# Altium footprint library PCB-PartsFootprint.PcbLib: 32 footprints (part 1 of 2)
Each footprint in its own frame and in the unit in brackets; x right, y up, seen from the top. Pads: shape width x height; smd on the part's side, far side on the other; paste and mask are expansions set on the pad; w line width, h text height; cw(c..) or ccw(c..) is an arc to the next point about the centre after c.
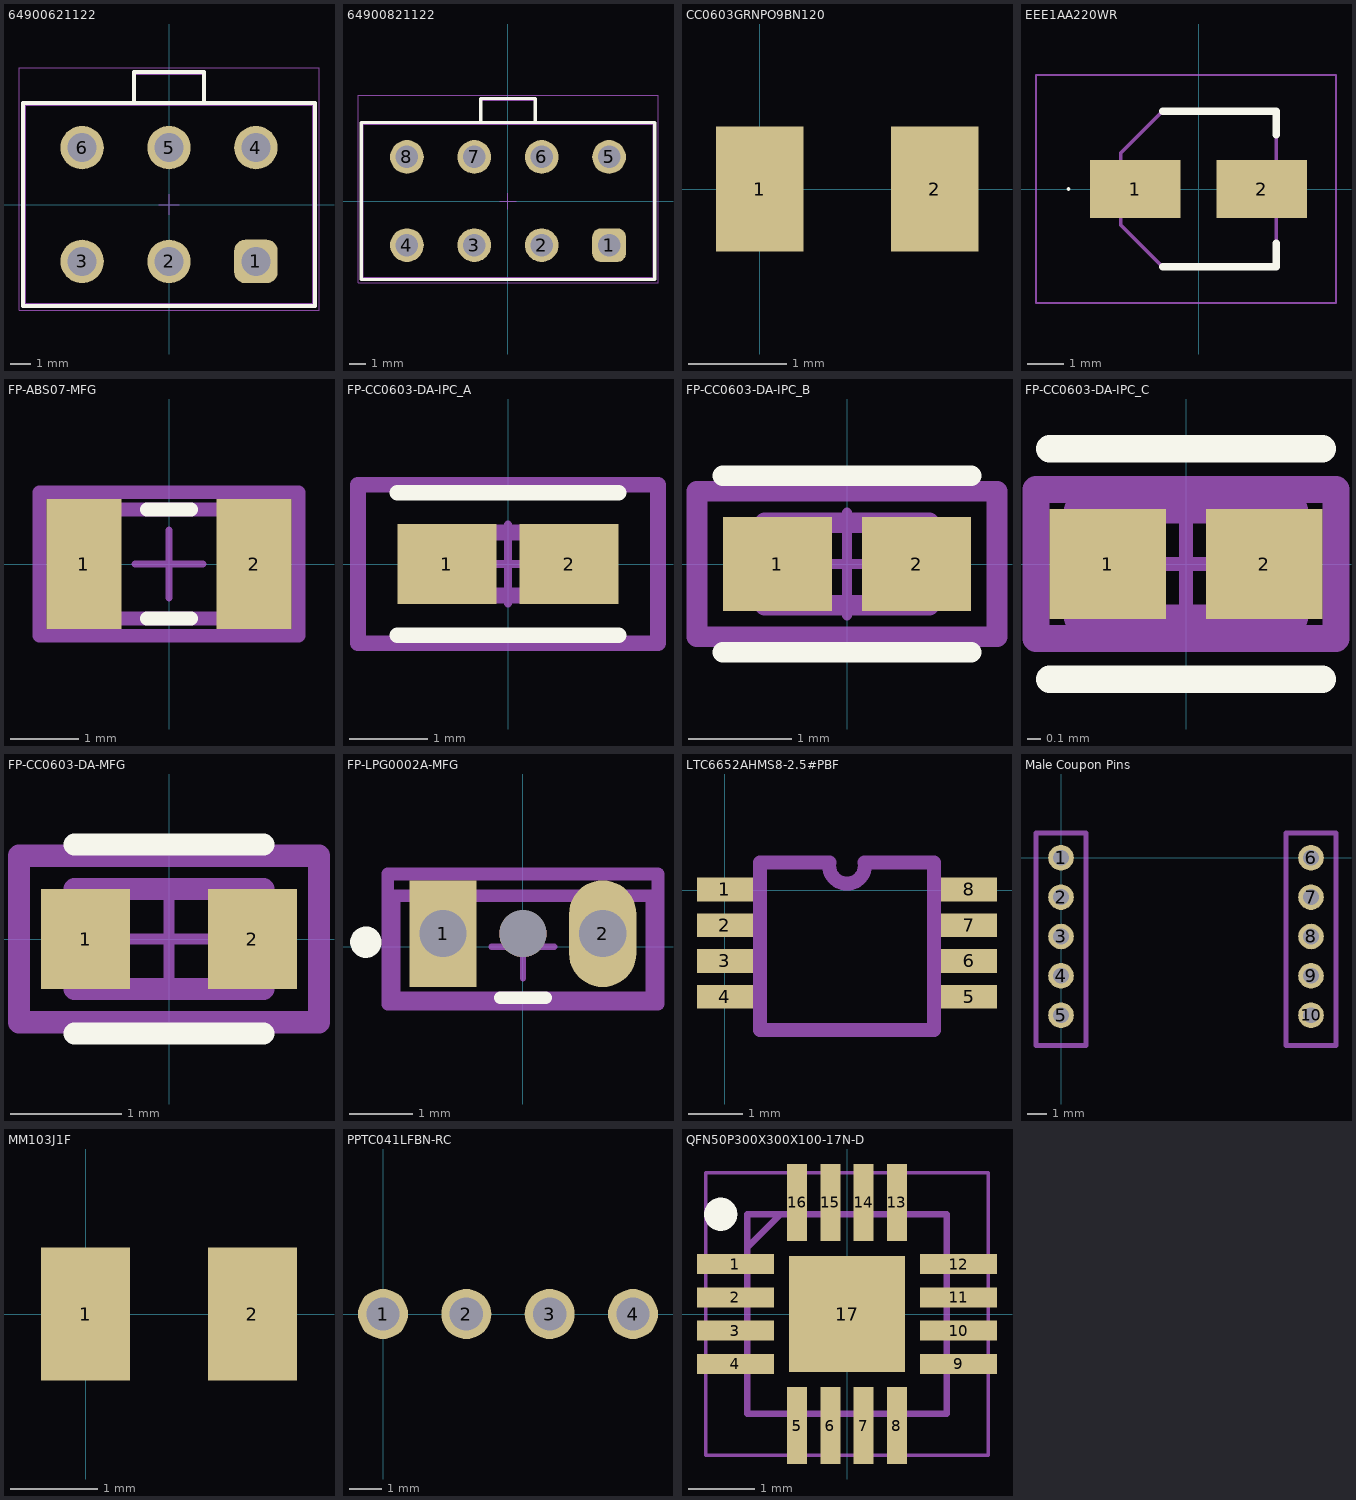
[diagram p0: the footprints below, top view; thin cyan lines are the x and y axes]

## 64900621122 [mm] "4.20mm Male Dual Row Vertical Header, 6p"
height 12.8
pads (6):
  rrect50% 2.1x2.1 hole 1.4: 1(4.2,-2.75)
  round 2.1 hole 1.4: 2(0,-2.75) 3(-4.2,-2.75) 4(4.2,2.75) 5(0,2.75) 6(-4.2,2.75)
Top Overlay:
  lines w0.2: -1.7,4.9 -1.7,6.4 1.7,6.4 1.7,4.9 ; -7.05,-4.9 7.05,-4.9 7.05,4.9 -7.05,4.9 -7.05,-4.9
Top Designator:
  text ".Designator" at -7.498,-0.5 h1.5
Top Component Outline:
  lines w0.1: -1.7,4.8 -1.7,6.3 1.7,6.3 1.7,4.8 ; -6.95,-4.8 -6.95,4.8 6.95,4.8 6.95,-4.8 -6.95,-4.8
Top Courtyard:
  lines w0.05: -0.5,0 0.5,0 ; 0,-0.5 0,0.5 ; -7.25,-5.1 -7.25,6.6 7.25,6.6 7.25,-5.1 -7.25,-5.1
3D body "64900621122.stp": height 12.85, standoff -3.45, extent -6.95,-4.8 7.246,6.3

## 64900821122 [mm] "4.20mm Male Dual Row Vertical Header, 8p"
height 12.8
pads (8):
  rrect50% 2.1x2.1 hole 1.4: 1(6.3,-2.75)
  round 2.1 hole 1.4: 2(2.1,-2.75) 3(-2.1,-2.75) 4(-6.3,-2.75) 5(6.3,2.75) 6(2.1,2.75) 7(-2.1,2.75) 8(-6.3,2.75)
Top Overlay:
  lines w0.2: -1.7,4.9 -1.7,6.4 1.7,6.4 1.7,4.9 ; -9.15,-4.9 -9.15,4.9 9.15,4.9 9.15,-4.9 -9.15,-4.9
Top Designator:
  text ".Designator" at -7.498,-0.5 h1.5
Top Component Outline:
  lines w0.1: -1.7,4.8 -1.7,6.3 1.7,6.3 1.7,4.8 ; -9.05,-4.8 9.05,-4.8 9.05,4.8 -9.05,4.8 -9.05,-4.8
Top Courtyard:
  lines w0.05: -0.5,0 0.5,0 ; 0,-0.5 0,0.5 ; -9.35,-5.1 9.35,-5.1 9.35,6.6 -9.35,6.6 -9.35,-5.1
3D body "64900821122.stp": height 12.85, standoff -3.45, extent -9.05,-4.8 9.346,6.3

## CC0603GRNPO9BN120 [mil]
pads (2):
  rect 35x50 smd: 1(0,0) 2(70,0)
3D body "CC0603GRNPO9BN120.step": height 30.75, standoff -0.75, extent 3.5,-15 66.5,20.43

## EEE1AA220WR [mm]
pads (2):
  rect 2.5x1.6 smd: 1(-1.75,0) 2(1.75,0)
Top Overlay:
  lines w0.05: -3.625,0 cw(c-3.6,0) -3.575,0 cw(c-3.6,0) -3.625,0
  lines w0.2: -1,-2.15 2.15,-2.15 2.15,-1.5 ; 2.15,2.15 -1,2.15 2.15,2.15 ; 2.15,2.15 2.15,1.5 2.15,2.15
Top 3D Body:
  lines w0.1: -2.15,1 -1,2.15 ; -2.15,1 -2.15,-1 -1,-2.15 2.15,-2.15 2.15,2.15 -1,2.15 ; -2.15,1 -1,2.15
Top Courtyard:
  lines w0.05: -4.5,-3.15 -4.5,3.15 3.8,3.15 3.8,-3.15 -4.5,-3.15
3D body "EEE-FN0J470R.stp": height 5.78, standoff -0.02, extent -2.5,-2.15 2.5,2.15

## FP-ABS07-MFG [mm]
pads (2):
  rect 1.1x1.9 smd paste+0 mask+0: 1(-1.25,0) 2(1.25,0)
Top Overlay:
  lines w0.2: -0.325,-0.8 0.325,-0.8 ; -0.325,0.8 0.325,0.8
Top Component Center:
  lines w0.1: -0.5,0 0.5,0 ; 0,-0.5 0,0.5
Top Assembly:
  lines w0.2: -1.9,-1.05 -1.9,1.05 1.9,1.05 1.9,-1.05 -1.9,-1.05
  text ".Designator" at 0,0.188 h1
Top 3D Body:
  lines w0.2: -1.65,-0.8 -1.65,0.8 1.65,0.8 1.65,-0.8 -1.65,-0.8
Top Courtyard:
  lines w0.2: -1.9,-1.05 -1.9,1.05 1.9,1.05 1.9,-1.05 -1.9,-1.05
3D body "Crys_Abracon_ABS07-166-32_768KHZ-T_eec.STEP": height 0.25, standoff 0, extent -1.9,-1.05 1.9,1.05

## FP-CC0603-DA-IPC_A [mm]
pads (2):
  rect 1.258x1.012 smd paste+0 mask+0: 1(-0.777,0) 2(0.777,0)
Top Overlay:
  lines w0.2: -1.406,-0.906 1.406,-0.906 ; -1.406,0.906 1.406,0.906
Top Component Center:
  lines w0.1: -0.5,0 0.5,0 ; 0,-0.5 0,0.5
Top Assembly:
  lines w0.2: -1.906,-1.006 1.906,-1.006 1.906,1.006 -1.906,1.006 -1.906,-1.006
  text ".Designator" at 0,0.188 h1
Top 3D Body:
  lines w0.2: -0.8,-0.4 0.8,-0.4 0.8,0.4 -0.8,0.4 -0.8,-0.4
Top Courtyard:
  lines w0.2: -1.906,-1.006 1.906,-1.006 1.906,1.006 -1.906,1.006 -1.906,-1.006
3D body "Cap_YAGEO_CC0603KRX7R9BB271_eec.STEP": height 0.25, standoff 0, extent -1.906,-1.006 1.906,1.006

## FP-CC0603-DA-IPC_B [mm]
pads (2):
  rect 1.058x0.912 smd paste+0 mask+0: 1(-0.677,0) 2(0.677,0)
Top Overlay:
  lines w0.2: -1.206,-0.856 1.206,-0.856 ; -1.206,0.856 1.206,0.856
Top Component Center:
  lines w0.1: -0.5,0 0.5,0 ; 0,-0.5 0,0.5
Top Assembly:
  lines w0.2: -1.456,-0.706 1.456,-0.706 1.456,0.706 -1.456,0.706 -1.456,-0.706
  text ".Designator" at 0,0.188 h1
Top 3D Body:
  lines w0.2: -0.8,-0.4 0.8,-0.4 0.8,0.4 -0.8,0.4 -0.8,-0.4
Top Courtyard:
  lines w0.2: -1.456,-0.706 1.456,-0.706 1.456,0.706 -1.456,0.706 -1.456,-0.706
3D body "Cap_YAGEO_CC0603KRX7R9BB271_eec.STEP": height 0.25, standoff 0, extent -1.456,-0.706 1.456,0.706

## FP-CC0603-DA-IPC_C [mm]
pads (2):
  rect 0.858x0.812 smd paste+0 mask+0: 1(-0.577,0) 2(0.577,0)
Top Overlay:
  lines w0.2: -1.006,-0.85 1.006,-0.85 ; -1.006,0.85 1.006,0.85
Top Component Center:
  lines w0.1: -0.5,0 0.5,0 ; 0,-0.5 0,0.5
Top Assembly:
  lines w0.2: -1.106,-0.55 -1.106,0.55 1.106,0.55 1.106,-0.55 -1.106,-0.55
  text ".Designator" at 0,0.188 h1
Top 3D Body:
  lines w0.2: -0.8,-0.4 -0.8,0.4 0.8,0.4 0.8,-0.4 -0.8,-0.4
Top Courtyard:
  lines w0.2: -1.106,-0.55 -1.106,0.55 1.106,0.55 1.106,-0.55 -1.106,-0.55
3D body "Cap_YAGEO_CC0603KRX7R9BB271_eec.STEP": height 0.25, standoff 0, extent -1.106,-0.55 1.106,0.55

## FP-CC0603-DA-MFG [mm]
pads (2):
  rect 0.8x0.9 smd paste+0 mask+0: 1(-0.75,0) 2(0.75,0)
Top Overlay:
  lines w0.2: -0.85,-0.85 0.85,-0.85 ; -0.85,0.85 0.85,0.85
Top Component Center:
  lines w0.1: -0.5,0 0.5,0 ; 0,-0.5 0,0.5
Top Assembly:
  lines w0.2: -1.35,-0.75 1.35,-0.75 1.35,0.75 -1.35,0.75 -1.35,-0.75
  text ".Designator" at 0,0.188 h1
Top 3D Body:
  lines w0.2: -0.85,-0.45 0.85,-0.45 0.85,0.45 -0.85,0.45 -0.85,-0.45
Top Courtyard:
  lines w0.2: -1.35,-0.75 1.35,-0.75 1.35,0.75 -1.35,0.75 -1.35,-0.75
3D body "Cap_YAGEO_CC0603KRX7R9BB271_eec.STEP": height 0.25, standoff 0, extent -1.35,-0.75 1.35,0.75

## FP-LPG0002A-MFG [mm]
pads (3):
  rect 1.07x1.7 hole 0.75 paste-2539.97 mask+0: 1(-1.27,0.21)
  rrect100% 1.07x1.7 hole 0.75 paste-2539.97 mask+0: 2(1.27,0.21)
  round 0.75 hole 0.75 unplated paste-2539.97 mask+0: ""(0,0.21)
Top Overlay:
  circle w0.25: c-2.5,0.075 r0.125
  lines w0.2: -0.36,-0.81 0.36,-0.81
Top Component Center:
  lines w0.1: -0.5,0 0.5,0 ; 0,-0.5 0,0.5
Top Assembly:
  lines w0.2: -2.15,-0.91 -2.15,1.16 2.15,1.16 2.15,-0.91 -2.15,-0.91
  text ".Designator" at 0,0.124 h1
Top 3D Body:
  lines w0.2: -2.05,-0.81 -2.05,0.81 2.05,0.81 2.05,-0.81 -2.05,-0.81
Top Courtyard:
  lines w0.2: -2.15,-0.91 -2.15,1.16 2.15,1.16 2.15,-0.91 -2.15,-0.91
3D body "IC_Texas_Instruments_LMT01LPG_eec.STEP": height 0.25, standoff 0, extent -2.15,-0.91 2.15,1.16

## LTC6652AHMS8-2.5#PBF [mil]
pads (8):
  rect 40x17 smd: 1(0,0.6) 2(0,-25) 3(0,-50.6) 4(0,-76.2) 5(175,-76.2) 6(175,-50.6) 7(175,-25) 8(175,0.6)
Mechanical 1:
  lines w10: 25,-100 150,-100 150,20 100,20 cw(c87.5,17.5) 75,20 25,20 25,-100
3D body "MSOP-8_MS_LIT.step": height 43.11, standoff 0, extent -12.51,-98.98 188.51,22.98

## Male Coupon Pins [mm]
pads (10):
  round 1.3 hole 0.8: 1(0,0) 2(0,-2) 3(0,-4) 4(0,-6) 5(0,-8) 6(12.7,0) 7(12.7,-2) 8(12.7,-4) 9(12.7,-6) 10(12.7,-8)
Mechanical 1:
  lines w0.254: -1.27,-9.525 1.27,-9.525 1.27,1.27 -1.27,1.27 -1.27,-9.525 ; 11.43,-9.525 11.43,1.27 13.97,1.27 13.97,-9.525 11.43,-9.525

## MM103J1F [mil]
pads (2):
  rect 40x60 smd: 1(0,0) 2(75,0)
3D body "MM103J1F.stp": height 49.5, standoff 0.5, extent 0,-24.5 75,24.5

## PCBComponent_1 [mm]

## PPTC041LFBN-RC [mil]
pads (4):
  round 60 hole 40: 1(0,0) 2(100,0) 3(200,0) 4(300,0)
3D body "PPTC041LFBN-RC.step": height 335, standoff -126, extent -60,-50 360,50

## QFN50P300X300X100-17N-D [mm]
pads (17):
  rect 1.156x0.3 smd: 1(-1.678,0.75) 2(-1.678,0.25) 3(-1.678,-0.25) 4(-1.678,-0.75) 9(1.678,-0.75) 10(1.678,-0.25) 11(1.678,0.25) 12(1.678,0.75)
  rect 0.3x1.156 smd: 5(-0.75,-1.678) 6(-0.25,-1.678) 7(0.25,-1.678) 8(0.75,-1.678) 13(0.75,1.678) 14(0.25,1.678) 15(-0.25,1.678) 16(-0.75,1.678)
  rect 1.75x1.75 smd: 17(0,0)
Top Overlay:
  circle w0.25: c-1.9,1.5 r0.125
Top 3D Body:
  lines w0.1: -1.5,1 -1,1.5 ; -1.5,-1.5 -1.5,1.5 1.5,1.5 1.5,-1.5 -1.5,-1.5
Top Courtyard:
  lines w0.05: -2.125,-2.125 -2.125,2.125 2.125,2.125 2.125,-2.125 -2.125,-2.125
3D body "TMP468AIRGTR.stp": height 1, standoff 0, extent -1.5,-1.5 1.5,1.5